# Altium footprint library F_1210_3225.PcbLib: 1 footprints
Each footprint in its own frame and in the unit in brackets; x right, y up, seen from the top. Pads: shape width x height; smd on the part's side, far side on the other; paste and mask are expansions set on the pad; w line width, h text height; cw(c..) or ccw(c..) is an arc to the next point about the centre after c.
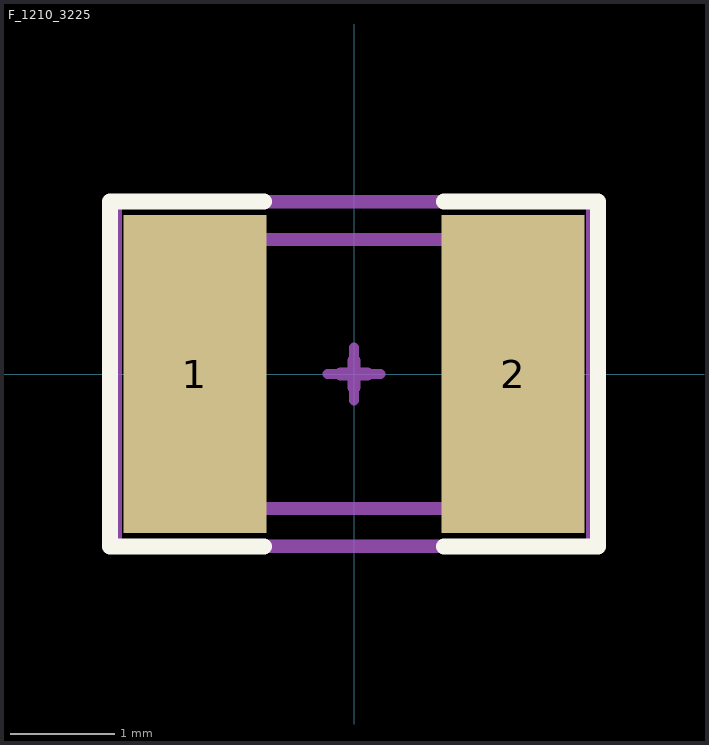
[diagram p0: the footprint, top view; thin cyan lines are the x and y axes]

## F_1210_3225 [mil]
pads (2):
  rect 54x120 smd: 1(-60,0) 2(60,0)
Top Overlay:
  lines w6: -34,-65 -92,-65 -92,65 -34,65 ; 34,-65 92,-65 92,65 34,65
Top Assembly:
  lines w5: -63.28,-50.68 63.29,-50.68 63.29,50.69 -63.28,50.69 -63.28,-50.68
Top Courtyard:
  lines w3.94: -10,0 10,0 ; 0,-10 0,10
  lines w5: -90,-65 90,-65 90,65 -90,65 -90,-65
Mechanical 17:
  text "'.Designator'" at -65,-40 h15
Mechanical 19:
  lines w5: -5,0 5,0 ; 0,-5 0,5
  text "'.Comment'" at -65,-40 h15
3D body "User Library-Fuse1210.step": height 26.57, standoff 0, extent -63.28,-50.68 63.29,50.69